# EAGLE library part TPS61088 (library octanis_eps_v05)
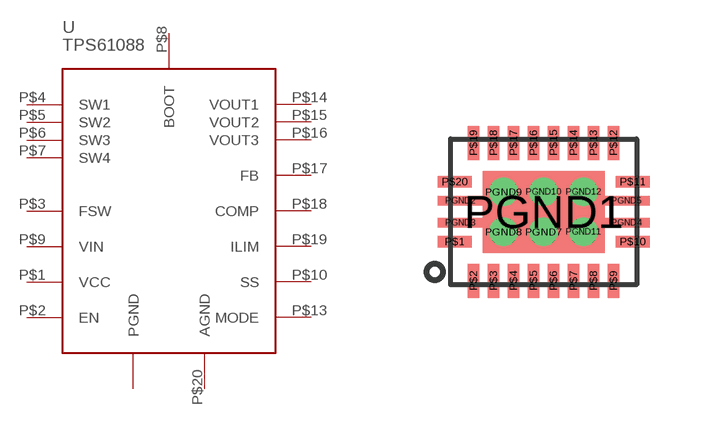
[diagram p8: symbol with the pads of R-PVQFN-N20; footprint R-PVQFN-N20]

Designator prefix -

## TPS61088  [R-PVQFN-N20]
P$1  VCC
P$2  EN
P$3  FSW
P$4  SW1
P$5  SW2
P$6  SW3
P$7  SW4
P$8  BOOT
P$9  VIN
P$10  SS
P$13  MODE
P$14  VOUT1
P$15  VOUT2
P$16  VOUT3
P$17  FB
P$18  COMP
P$19  ILIM
P$20  AGND

## Footprint R-PVQFN-N20 (pad centres in mm)
smd 0.85 x 0.28: P$1 0,0; P$10 4.45,0; P$11 4.45,1.5; P$20 0,1.5
smd 0.28 x 0.85: P$2 0.475,-0.975; P$3 0.975,-0.975; P$4 1.475,-0.975; P$5 1.975,-0.975; P$6 2.475,-0.975; P$7 2.975,-0.975; P$8 3.475,-0.975; P$9 3.975,-0.975; P$12 3.975,2.475; P$13 3.475,2.475; P$14 2.975,2.475; P$15 2.475,2.475; P$16 1.975,2.475; P$17 1.475,2.475; P$18 0.975,2.475; P$19 0.475,2.475
smd 3.05 x 2.05: PGND1 2.225,0.75
smd 1.15 x 0.23: PGND2 0.15,1.025; PGND3 0.15,0.475; PGND4 4.3,0.475; PGND5 4.3,1.025
drill 0.2 pad 0.4: PGND7 2.225,0.25; PGND8 1.225,0.25; PGND9 1.225,1.25; PGND10 2.225,1.25; PGND11 3.225,0.25; PGND12 3.225,1.25